# Altium footprint library TE_87227-6.PcbLib: 1 footprints
Each footprint in its own frame and in the unit in brackets; x right, y up, seen from the top. Pads: shape width x height; smd on the part's side, far side on the other; paste and mask are expansions set on the pad; w line width, h text height; cw(c..) or ccw(c..) is an arc to the next point about the centre after c.
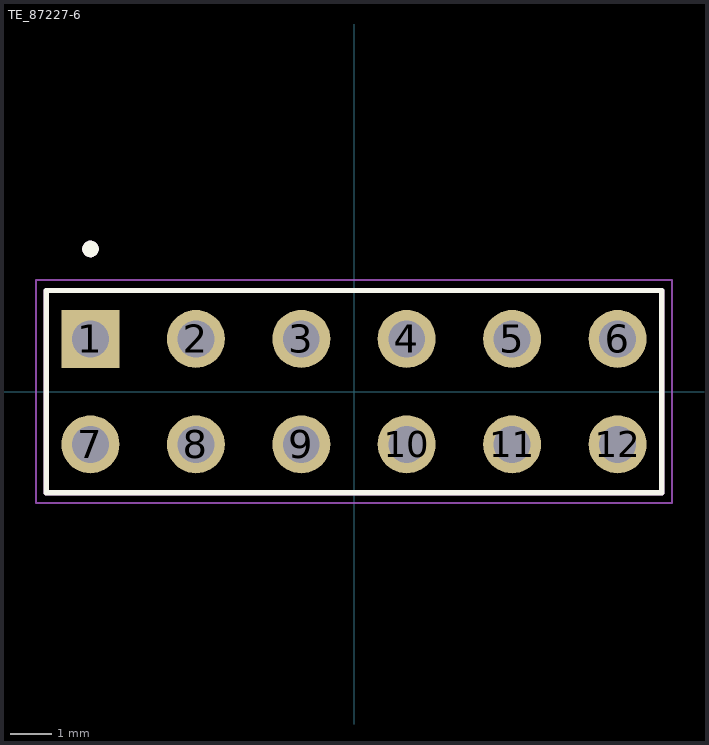
[diagram p0: the footprint, top view; thin cyan lines are the x and y axes]

## TE_87227-6 [mil]
pads (12):
  rect 55x55 / inner round 55 / far side rect 55x55 hole 35: 1(-250,50)
  round 55 hole 35: 2(-150,50) 3(-50,50) 4(50,50) 5(150,50) 6(250,50) 7(-250,-50) 8(-150,-50) 9(-50,-50) 10(50,-50) 11(150,-50) 12(250,-50)
Top Overlay:
  circle w7.87: c-250,135.35 r3.94
  lines w5: -292.01,-95.98 292.01,-95.98 292.01,95.98 -292.01,95.98 -292.01,-95.98
Assembly Top:
  circle w7.87: c-250,135.35 r3.94
  lines w5: -292.01,-95.98 292.01,-95.98 292.01,95.98 -292.01,95.98 -292.01,-95.98
Courtyard Top:
  lines w1.97: -301.85,-105.83 301.85,-105.83 301.85,105.83 -301.85,105.83 -301.85,-105.83
3D body "step_temp.STEP": height 408, standoff -125, extent -292,-96 292,96